# EAGLE library part MAX490CPA+ (library other)
MAX490CPA+, Line Transceiver, RS-485, RS-422 2.5Mbit/s Differential, 4.75 5.25 V, 8-Pin PDIP Source: Datasheet <http://datasheets.maximintegrated.com/en/ds/MAX1487-MAX491.pdf>
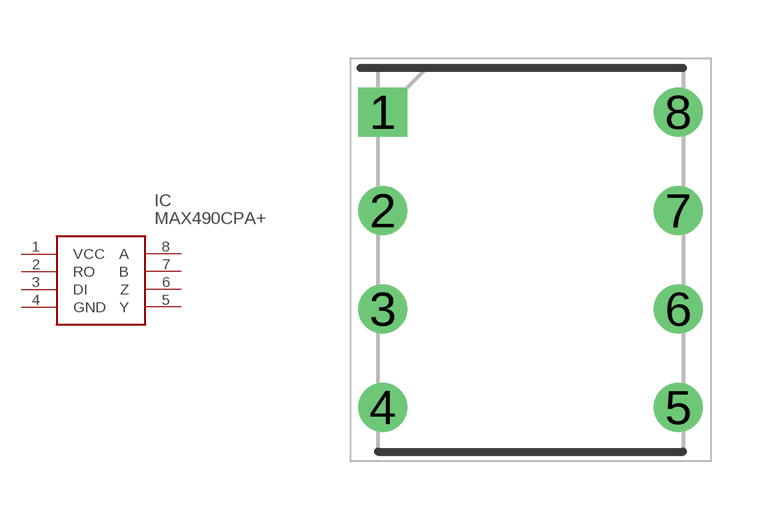
[diagram p0: symbol with the pads of DIP762W56P254L938H457Q8N; footprint DIP762W56P254L938H457Q8N]

Designator prefix IC

## MAX490CPA+ (ARROW_PART_NUMBER: MAX490CPA+; ARROW_PRICE/STOCK: http://uk.rs-online.com/web/p/products/1659195; DESCRIPTION: MAX490CPA+, Line Transceiver, RS-485, RS-422 2.5Mbit/s Differential, 4.75 5.25 V, 8-Pin PDIP; HEIGHT: 4.572mm; MANUFACTURER_NAME: Maxim Integrated; MANUFACTURER_PART_NUMBER: MAX490CPA+; RS_PART_NUMBER: 1659195; RS_PRICE/STOCK: http://uk.rs-online.com/web/p/products/1659195)  [DIP762W56P254L938H457Q8N]
1  VCC  pwr
2  RO  out
3  DI  in
4  GND  pwr
5  Y  out
6  Z  out
7  B  in
8  A  in

## Footprint DIP762W56P254L938H457Q8N (pad centres in mm)
8 PDIP
drill 0.76 pad 1.16 square: 1 -3.81,3.81
drill 0.76 pad 1.16: 2 -3.81,1.27; 3 -3.81,-1.27; 4 -3.81,-3.81; 5 3.81,-3.81; 6 3.81,-1.27; 7 3.81,1.27; 8 3.81,3.81